# Altium footprint library PW4040封装库.PcbLib: 9 footprints
Each footprint in its own frame and in the unit in brackets; x right, y up, seen from the top. Pads: shape width x height; smd on the part's side, far side on the other; paste and mask are expansions set on the pad; w line width, h text height; cw(c..) or ccw(c..) is an arc to the next point about the centre after c.
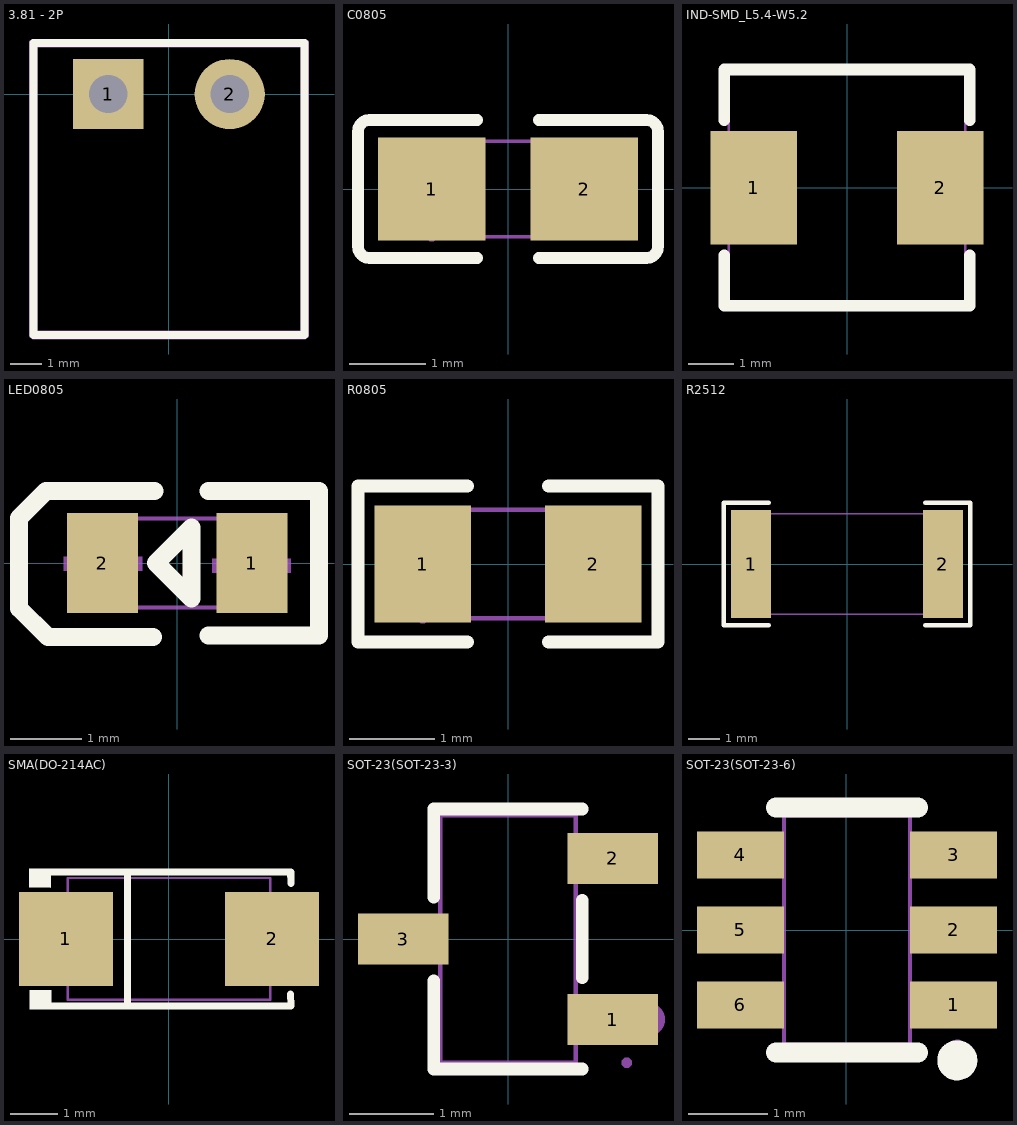
[diagram p0: the footprints below, top view; thin cyan lines are the x and y axes]

## 3.81 - 2P [mm]
pads (2):
  rect 2.2x2.2 hole 1.2: 1(-1.9,0)
  round 2.2 hole 1.2: 2(1.91,0)
Top Overlay:
  lines w0.254: -4.245,-7.55 4.255,-7.55 4.255,1.6 -4.245,1.6 -4.245,-7.55
Mechanical 6:
  region: 4.255,1.473 -4.245,1.473 -4.297,1.473 -4.372,1.547 -4.372,1.653 -4.297,1.727 -4.245,1.727 4.255,1.727 4.308,1.727 4.382,1.653 4.382,1.547 4.308,1.473 4.255,1.473
  region: -4.118,1.6 -4.118,-7.423 4.128,-7.423 4.128,1.6 4.128,1.653 4.203,1.727 4.308,1.727 4.382,1.653 4.382,1.6 4.382,-7.55 4.382,-7.575 4.363,-7.622 4.327,-7.658 4.281,-7.677 4.255,-7.677 -4.245,-7.677 -4.27,-7.677 -4.317,-7.658 -4.352,-7.622 -4.372,-7.575 -4.372,-7.55 -4.372,1.6 -4.372,1.653 -4.297,1.727 -4.192,1.727 -4.118,1.653 -4.118,1.6
Mechanical 15:
  region: 1.51,0.4 2.31,0.4 2.31,-0.4 1.51,-0.4
  region: -2.3,0.4 -1.5,0.4 -1.5,-0.4 -2.3,-0.4
  region: -4.185,-7.55 -4.185,-7.525 -4.22,-7.49 -4.27,-7.49 -4.305,-7.525 -4.305,-7.55 -4.305,-7.575 -4.27,-7.61 -4.22,-7.61 -4.185,-7.575 -4.185,-7.55
  lines w0.051: -4.245,-7.55 4.255,-7.55 4.255,1.6 -4.245,1.6 -4.245,-7.55

## C0805 [mm]
pads (2):
  rect 1.41x1.35 smd paste-100 mask+0.051: 1(-1,0) 2(1,0)
Top Overlay:
  lines w0.152: -0.401,-0.904 -1.811,-0.904 cw(c-1.811,-0.751) -1.964,-0.751 -1.964,0.751 cw(c-1.811,0.751) -1.811,0.904 -0.401,0.904 ; 0.401,-0.904 1.811,-0.904 ccw(c1.811,-0.751) 1.964,-0.751 1.964,0.751 ccw(c1.811,0.751) 1.811,0.904 0.401,0.904
Top Paste:
  region: 1.705,0.64 1.705,-0.64 1.655,-0.69 0.505,-0.69 0.455,-0.64 0.45,-0.23 0.9,-0.23 0.9,0.22 0.46,0.22 0.455,0.64 0.505,0.69 1.655,0.69
  region: -1.705,-0.64 -1.705,0.64 -1.655,0.69 -0.505,0.69 -0.455,0.64 -0.45,0.23 -0.9,0.23 -0.9,-0.22 -0.46,-0.22 -0.455,-0.64 -0.505,-0.69 -1.655,-0.69
Mechanical 15:
  region: 1,0.625 1,-0.625 0.5,-0.625 0.5,0.625
  region: -1,-0.625 -1,0.625 -0.5,0.625 -0.5,-0.625
  region: -0.94,-0.625 -0.94,-0.6 -0.975,-0.565 -1.025,-0.565 -1.06,-0.6 -1.06,-0.625 -1.06,-0.65 -1.025,-0.685 -0.975,-0.685 -0.94,-0.65 -0.94,-0.625
  lines w0.051: -1,-0.625 1,-0.625 1,0.625 -1,0.625 -1,-0.625

## IND-SMD_L5.4-W5.2 [mm]
pads (2):
  rect 1.9x2.5 smd: 1(-2.05,0) 2(2.05,0)
Top Overlay:
  lines w0.254: -2.7,-1.481 -2.7,-2.6 2.7,-2.6 2.7,-1.481 ; -2.7,1.481 -2.7,2.6 2.7,2.6 2.7,1.481
Mechanical 15:
  region: 2.7,-1.1 1.5,-1.1 1.5,1.1 2.7,1.1
  region: -2.7,1.1 -1.5,1.1 -1.5,-1.1 -2.7,-1.1
  region: -2.64,-2.6 -2.641,-2.576 -2.676,-2.543 -2.724,-2.543 -2.759,-2.576 -2.76,-2.6 -2.759,-2.624 -2.724,-2.657 -2.676,-2.657 -2.641,-2.624 -2.64,-2.6
  lines w0.051: -2.6,-2.6 -2.6,2.6 2.6,2.6 2.6,-2.6 -2.6,-2.6

## LED0805 [mm]
pads (2):
  rect 1x1.4 smd: 1(1.05,0) 2(-1.05,0)
Top Overlay:
  lines w0.254: -0.344,-1.043 -1.817,-1.043 -2.224,-0.636 -2.224,0.634 -1.843,1.015 -0.319,1.015 ; 0.443,-1.017 1.993,-1.017 1.993,1.015 0.443,1.015 ; -0.3,0 -0.2,0.1 0.2,0.5 0.2,-0.5 -0.2,-0.1 -0.3,0
Mechanical 6:
  region: 0.494,0.06 1.594,0.06 1.594,-0.14 0.494,-0.14
  region: 0.941,-0.556 0.941,0.544 1.141,0.544 1.141,-0.556
  region: -0.494,-0.109 -1.594,-0.109 -1.594,0.091 -0.494,0.091
Mechanical 15:
  region: 1,-0.625 0.6,-0.625 0.6,0.625 1,0.625
  region: -0.6,-0.625 -1,-0.625 -1,0.625 -0.6,0.625
  region: 1.06,0.625 1.06,0.65 1.025,0.685 0.975,0.685 0.94,0.65 0.94,0.625 0.94,0.6 0.975,0.565 1.025,0.565 1.06,0.6 1.06,0.625
  lines w0.051: -1,-0.625 1,-0.625 1,0.625 -1,0.625 -1,-0.625

## R0805 [mm]
pads (2):
  rect 1.133x1.377 smd paste-100 mask+0.051: 1(-1,0) 2(1,0)
Top Overlay:
  lines w0.152: -0.476,-0.917 -1.761,-0.917 -1.761,0.917 -0.476,0.917 ; 0.476,-0.917 1.761,-0.917 1.761,0.917 0.476,0.917
Top Paste:
  region: 0.45,-0.64 0.45,-0.22 0.895,-0.22 0.895,0.23 0.455,0.23 0.45,0.64 0.5,0.69 1.65,0.69 1.7,0.64 1.7,-0.64 1.65,-0.69 0.5,-0.69
  region: -1.7,-0.64 -1.7,0.64 -1.65,0.69 -0.5,0.69 -0.45,0.64 -0.445,0.23 -0.895,0.23 -0.895,-0.22 -0.455,-0.22 -0.45,-0.64 -0.5,-0.69 -1.65,-0.69
Mechanical 15:
  region: -0.94,-0.638 -0.94,-0.613 -0.975,-0.578 -1.025,-0.578 -1.06,-0.613 -1.06,-0.638 -1.06,-0.662 -1.025,-0.698 -0.975,-0.698 -0.94,-0.662 -0.94,-0.638
  region: 1,-0.637 1,0.637 0.6,0.637 0.6,-0.637
  region: -1,-0.637 -1,0.637 -0.6,0.637 -0.6,-0.637
  lines w0.051: -1,-0.637 1,-0.637 1,0.637 -1,0.637 -1,-0.637

## R2512 [mm]
pads (2):
  rect 1.283x3.456 smd paste-100 mask+0.051: 1(-3.066,0) 2(3.066,0)
Top Overlay:
  lines w0.152: -2.501,-1.957 -3.936,-1.957 -3.936,1.957 -2.501,1.957 ; 2.501,-1.957 3.936,-1.957 3.936,1.957 2.501,1.957
Top Paste:
  region: 2.425,-1.628 2.425,-0.688 2.525,-0.588 2.761,-0.588 2.861,-0.488 2.861,0.488 2.761,0.588 2.525,0.588 2.425,0.688 2.425,1.628 2.525,1.728 3.608,1.728 3.708,1.628 3.708,-1.628 3.608,-1.728 2.525,-1.728
  region: -2.425,-1.628 -2.425,-0.688 -2.525,-0.588 -2.761,-0.588 -2.861,-0.488 -2.861,0.488 -2.761,0.588 -2.525,0.588 -2.425,0.688 -2.425,1.628 -2.525,1.728 -3.608,1.728 -3.708,1.628 -3.708,-1.628 -3.608,-1.728 -2.525,-1.728
Mechanical 15:
  region: -3.115,-1.6 -3.115,-1.575 -3.15,-1.54 -3.2,-1.54 -3.235,-1.575 -3.235,-1.6 -3.235,-1.625 -3.2,-1.66 -3.15,-1.66 -3.115,-1.625 -3.115,-1.6
  region: -3.15,-1.6 -3.15,1.6 -2.55,1.6 -2.55,-1.6
  region: 2.55,-1.6 2.55,1.6 3.15,1.6 3.15,-1.6
  lines w0.051: -3.15,-1.6 -3.15,1.6 3.15,1.6 3.15,-1.6 -3.15,-1.6

## SMA(DO-214AC) [mm]
pads (2):
  rect 2x2 smd: 1(-2.193,0.008) 2(2.207,0.008)
Top Overlay:
  region: -2.505,-1.088 -2.506,-1.495 -2.966,-1.49 -2.962,-1.088
  region: -2.513,1.51 -2.514,1.104 -2.974,1.108 -2.97,1.51
  lines w0.152: -2.589,-1.418 2.603,-1.418 ; -2.589,1.434 2.603,1.434 2.61,1.195 ; -0.877,-1.418 -0.877,1.434 ; 2.6,-1.168 2.607,-1.407
Mechanical 6:
  region: 2.021,-0.667 2.021,0.683 1.818,0.683 1.818,-0.667
  region: 2.297,-0.082 2.297,0.12 1.487,0.12 1.487,-0.082
  region: -2.31,-0.093 -2.31,0.109 -1.5,0.109 -1.5,-0.093
Mechanical 15:
  region: 2.612,0.733 2.612,-0.717 1.487,-0.717 1.487,0.733
  region: -1.473,0.733 -1.473,-0.717 -2.598,-0.717 -2.598,0.733
  region: -2.538,-1.292 -2.538,-1.267 -2.573,-1.232 -2.623,-1.232 -2.658,-1.267 -2.658,-1.292 -2.658,-1.317 -2.623,-1.352 -2.573,-1.352 -2.538,-1.317 -2.538,-1.292
  lines w0.051: -2.153,-1.292 2.167,-1.292 2.167,1.308 -2.153,1.308 -2.153,-1.292

## SOT-23(SOT-23-3) [mm]
pads (3):
  rect 1.07x0.6 smd: 1(1.235,-0.95) 2(1.235,0.95) 3(-1.235,0)
Top Overlay:
  lines w0.152: -0.876,-0.495 -0.876,-1.536 0.876,-1.536 ; -0.876,0.495 -0.876,1.536 0.876,1.536 ; 0.876,-0.455 0.876,0.455
Mechanical 6:
  circle w0.2: c1.651,-0.95 r0.1
Mechanical 15:
  region: -0.96,-0.2 -0.96,0.2 -0.79,0.2 -0.79,-0.2
  region: -0.95,-0.2 -0.95,0.2 -1.4,0.2 -1.4,-0.2
  region: 0.79,0.75 0.79,1.15 0.96,1.15 0.96,0.75
  region: 0.95,0.75 0.95,1.15 1.4,1.15 1.4,0.75
  region: 0.79,-1.15 0.79,-0.75 0.96,-0.75 0.96,-1.15
  region: 0.95,-1.15 0.95,-0.75 1.4,-0.75 1.4,-1.15
  region: 1.46,-1.46 1.459,-1.436 1.424,-1.402 1.376,-1.401 1.341,-1.436 1.34,-1.46 1.341,-1.484 1.376,-1.518 1.424,-1.518 1.459,-1.484 1.46,-1.46
  lines w0.051: -0.8,-1.46 0.8,-1.46 0.8,1.46 -0.8,1.46 -0.8,-1.46

## SOT-23(SOT-23-6) [mm]
pads (6):
  rect 1.1x0.6 smd paste+0 mask+0.051: 1(1.357,-0.949) 2(1.357,0.001) 3(1.357,0.951) 4(-1.343,0.951) 5(-1.343,0.001) 6(-1.343,-0.949)
Top Overlay:
  circle w0.254: c1.404,-1.65 r0.127
  lines w0.254: -0.893,-1.549 0.907,-1.549 ; -0.893,1.551 0.907,1.551
Mechanical 6:
  circle w0.2: c1.407,-0.949 r0.1
Mechanical 15:
  region: 0.942,1.166 0.942,0.736 0.797,0.736 0.797,1.166
  region: 0.942,0.216 0.942,-0.214 0.797,-0.214 0.797,0.216
  region: 0.942,-0.734 0.942,-1.164 0.797,-1.164 0.797,-0.734
  region: -0.928,-1.164 -0.928,-0.734 -0.783,-0.734 -0.783,-1.164
  region: -0.928,-0.214 -0.928,0.216 -0.783,0.216 -0.783,-0.214
  region: -0.928,0.736 -0.928,1.166 -0.783,1.166 -0.783,0.736
  region: 0.932,-1.164 0.932,-0.734 1.407,-0.734 1.407,-1.164
  region: 0.932,-0.214 0.932,0.216 1.407,0.216 1.407,-0.214
  region: 0.932,0.736 0.932,1.166 1.407,1.166 1.407,0.736
  region: -0.918,0.736 -0.918,1.166 -1.393,1.166 -1.393,0.736
  region: -0.918,-0.214 -0.918,0.216 -1.393,0.216 -1.393,-0.214
  region: -0.918,-1.164 -0.918,-0.734 -1.393,-0.734 -1.393,-1.164
  region: 1.467,-1.449 1.467,-1.424 1.432,-1.389 1.382,-1.389 1.347,-1.424 1.347,-1.449 1.347,-1.474 1.382,-1.509 1.432,-1.509 1.467,-1.474 1.467,-1.449
  lines w0.051: -0.793,-1.449 0.807,-1.449 0.807,1.451 -0.793,1.451 -0.793,-1.449